# Altium footprint library Res_Bourns_3314J-1-502E_eec_0.PcbLib: 1 footprints
Each footprint in its own frame and in the unit in brackets; x right, y up, seen from the top. Pads: shape width x height; smd on the part's side, far side on the other; paste and mask are expansions set on the pad; w line width, h text height; cw(c..) or ccw(c..) is an arc to the next point about the centre after c.
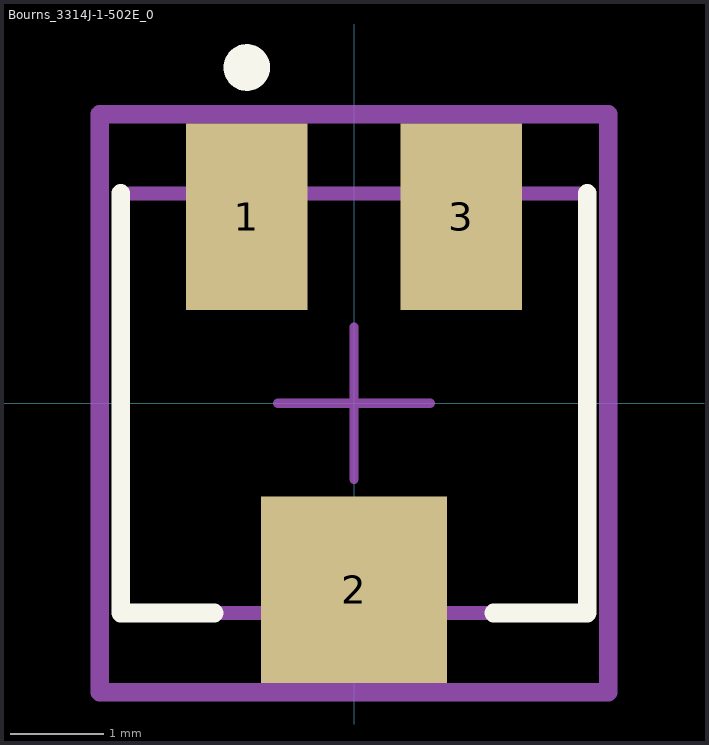
[diagram p0: the footprint, top view; thin cyan lines are the x and y axes]

## Bourns_3314J-1-502E_0 [mm]
pads (3):
  rect 1.3x2 smd paste+0 mask+0: 1(-1.15,2) 3(1.15,2)
  rect 2x2 smd paste+0 mask+0: 2(0,-2)
Top Overlay:
  circle w0.25: c-1.15,3.6 r0.125
  lines w0.2: -2.5,2.25 -2.5,-2.25 -1.5,-2.25 ; 1.5,-2.25 2.5,-2.25 2.5,2.25
Mechanical 10:
  lines w0.2: -2.725,-3.1 -2.725,3.1 2.725,3.1 2.725,-3.1 -2.725,-3.1
  text ".Designator" at 0,0 h1
Mechanical 12:
  lines w0.15: -2.5,-2.25 -2.5,2.25 2.5,2.25 2.5,-2.25 -2.5,-2.25
Mechanical 15:
  lines w0.1: -0.817,0 0.817,0 ; 0,-0.817 0,0.817
  lines w0.2: -2.725,-3.1 -2.725,3.1 2.725,3.1 2.725,-3.1 -2.725,-3.1
3D body "Res_Bourns_3314J-1-502E_eec.STEP": height 2.55, standoff 0, extent -2.234,-2.4 2.266,2.5